# Altium schematic symbol library Transistor BJT.SchLib: 71 symbols
Pins are listed as number, name and electrical type; pins without a type are passive.

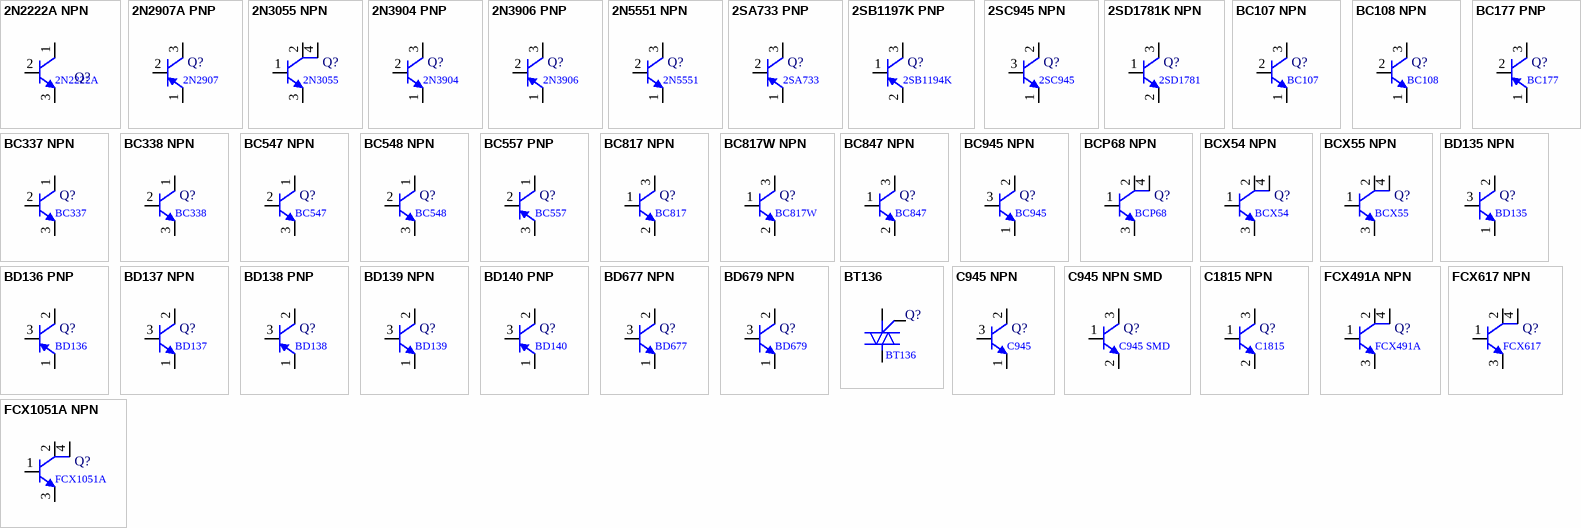
[diagram p0: symbols 2N2222A NPN to FCX1051A NPN]

## 2N2222A NPN
designator Q?  value 2N2222A
DatasheetVersion: 2022
pins: 1 C, 2 B, 3 E

## 2N2907A PNP
designator Q?  value 2N2907
DatasheetVersion: 2022
pins: 1 E, 2 B, 3 C

## 2N3055 NPN
designator Q?  value 2N3055
DatasheetVersion: 2022
pins: 1 B, 2 C, 3 E, 4 C

## 2N3904 PNP
designator Q?  value 2N3904
DatasheetVersion: 2022
pins: 1 E, 2 B, 3 C

## 2N3906 PNP
designator Q?  value 2N3906
DatasheetVersion: 2022
pins: 1 E, 2 B, 3 C

## 2N5551 NPN
designator Q?  value 2N5551
DatasheetVersion: 2022
pins: 1 E, 2 B, 3 C

## 2SA733 PNP
designator Q?  value 2SA733
DatasheetVersion: 2022
pins: 1 E, 2 B, 3 C

## 2SB1197K PNP
designator Q?  value 2SB1194K
DatasheetVersion: 2022
pins: 1 B, 2 E, 3 C

## 2SC945 NPN
designator Q?  value 2SC945
DatasheetVersion: 2022
pins: 1 E, 2 C, 3 B

## 2SD1781K NPN
designator Q?  value 2SD1781
DatasheetVersion: 2022
pins: 1 B, 2 E, 3 C

## BC107 NPN
designator Q?  value BC107
DatasheetVersion: 2022
pins: 1 E, 2 B, 3 C

## BC108 NPN
designator Q?  value BC108
DatasheetVersion: 2022
pins: 1 E, 2 B, 3 C

## BC177 PNP
designator Q?  value BC177
DatasheetVersion: 2022
pins: 1 E, 2 B, 3 C

## BC337 NPN
designator Q?  value BC337
DatasheetVersion: 2022
pins: 1 C, 2 B, 3 E

## BC338 NPN
designator Q?  value BC338
DatasheetVersion: 2022
pins: 1 C, 2 B, 3 E

## BC547 NPN
designator Q?  value BC547
DatasheetVersion: 2022
pins: 1 C, 2 B, 3 E

## BC548 NPN
designator Q?  value BC548
DatasheetVersion: 2022
pins: 1 C, 2 B, 3 E

## BC557 PNP
designator Q?  value BC557
DatasheetVersion: 2022
pins: 1 C, 2 B, 3 E

## BC817 NPN
designator Q?  value BC817
DatasheetVersion: 2022
pins: 1 B, 2 E, 3 C

## BC817W NPN
designator Q?  value BC817W
DatasheetVersion: 2022
pins: 1 B, 2 E, 3 C

## BC847 NPN
designator Q?  value BC847
DatasheetVersion: 2022
pins: 1 B, 2 E, 3 C

## BC945 NPN
designator Q?  value BC945
DatasheetVersion: 2022
pins: 1 E, 2 C, 3 B

## BCP68 NPN
designator Q?  value BCP68
DatasheetVersion: 2022
pins: 1 B, 2 C, 3 E, 4 C2

## BCX54 NPN
designator Q?  value BCX54
DatasheetVersion: 2022
pins: 1 B, 2 C, 3 E, 4 C2

## BCX55 NPN
designator Q?  value BCX55
DatasheetVersion: 2022
pins: 1 B, 2 C, 3 E, 4 C

## BD135 NPN
designator Q?  value BD135
DatasheetVersion: 2022
pins: 1 E, 2 C, 3 B

## BD136 PNP
designator Q?  value BD136
DatasheetVersion: 2022
pins: 1 E, 2 C, 3 B

## BD137 NPN
designator Q?  value BD137
DatasheetVersion: 2022
pins: 1 E, 2 C, 3 B

## BD138 PNP
designator Q?  value BD138
DatasheetVersion: 2022
pins: 1 E, 2 C, 3 B

## BD139 NPN
designator Q?  value BD139
DatasheetVersion: 2022
pins: 1 E, 2 C, 3 B

## BD140 PNP
designator Q?  value BD140
DatasheetVersion: 2022
pins: 1 E, 2 C, 3 B

## BD677 NPN
designator Q?  value BD677
DatasheetVersion: 2022
pins: 1 E, 2 C, 3 B

## BD679 NPN
designator Q?  value BD679
DatasheetVersion: 2022
pins: 1 E, 2 C, 3 B

## BT136
designator Q?  value BT136
DatasheetVersion: 2022
pins: 1 A1, 2 A2, 3 G

## C945 NPN
designator Q?  value C945
DatasheetVersion: 2022
pins: 1 E, 2 C, 3 B

## C945 NPN SMD
designator Q?  value C945 SMD
DatasheetVersion: 2022
pins: 1 B, 2 E, 3 C

## C1815 NPN
designator Q?  value C1815
DatasheetVersion: 2022
pins: 1 B, 2 E, 3 C

## FCX491A NPN
designator Q?  value FCX491A
DatasheetVersion: 2022
pins: 1 B, 2 C, 3 E, 4 C2

## FCX617 NPN
designator Q?  value FCX617
DatasheetVersion: 2022
pins: 1 B, 2 C, 3 E, 4 C2

## FCX1051A NPN
designator Q?  value FCX1051A
DatasheetVersion: 2022
pins: 1 B, 2 C, 3 E, 4 C2

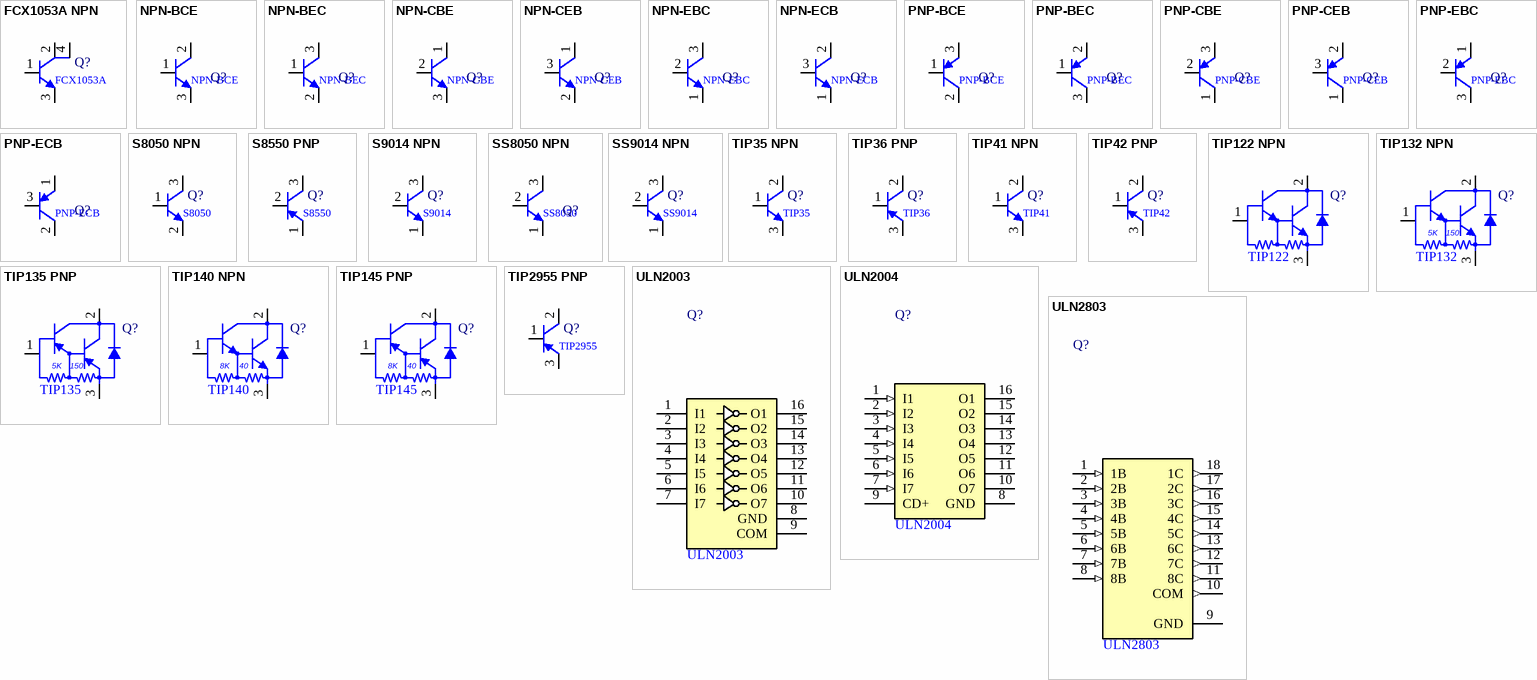
[diagram p1: symbols FCX1053A NPN to ULN2803]

## FCX1053A NPN
designator Q?  value FCX1053A
DatasheetVersion: 2022
pins: 1 B, 2 C, 3 E, 4 C2

## NPN-BCE
designator Q?  value NPN-BCE
DatasheetVersion: 2022
pins: 1 B, 2 C, 3 E

## NPN-BEC
designator Q?  value NPN-BEC
DatasheetVersion: 2022
pins: 1 B, 2 E, 3 C

## NPN-CBE
designator Q?  value NPN-CBE
DatasheetVersion: 2022
pins: 1 C, 2 B, 3 E

## NPN-CEB
designator Q?  value NPN-CEB
DatasheetVersion: 2022
pins: 1 C, 2 E, 3 B

## NPN-EBC
designator Q?  value NPN-EBC
DatasheetVersion: 2022
pins: 1 E, 2 B, 3 C

## NPN-ECB
designator Q?  value NPN-ECB
DatasheetVersion: 2022
pins: 1 E, 2 C, 3 B

## PNP-BCE
designator Q?  value PNP-BCE
DatasheetVersion: 2022
pins: 1 B, 2 C, 3 E

## PNP-BEC
designator Q?  value PNP-BEC
DatasheetVersion: 2022
pins: 1 B, 2 E, 3 C

## PNP-CBE
designator Q?  value PNP-CBE
DatasheetVersion: 2022
pins: 1 C, 2 B, 3 E

## PNP-CEB
designator Q?  value PNP-CEB
DatasheetVersion: 2022
pins: 1 C, 2 E, 3 B

## PNP-EBC
designator Q?  value PNP-EBC
DatasheetVersion: 2022
pins: 1 E, 2 B, 3 C

## PNP-ECB
designator Q?  value PNP-ECB
DatasheetVersion: 2022
pins: 1 E, 2 C, 3 B

## S8050 NPN
designator Q?  value S8050
DatasheetVersion: 2022
pins: 1 B, 2 E, 3 C

## S8550 PNP
designator Q?  value S8550
DatasheetVersion: 2022
pins: 1 E, 2 B, 3 C

## S9014 NPN
designator Q?  value S9014
DatasheetVersion: 2022
pins: 1 E, 2 B, 3 C

## SS8050 NPN
designator Q?  value SS8050
DatasheetVersion: 2022
pins: 1 E, 2 B, 3 C

## SS9014 NPN
designator Q?  value SS9014
DatasheetVersion: 2022
pins: 1 E, 2 B, 3 C

## TIP35 NPN
designator Q?  value TIP35
DatasheetVersion: 2022
pins: 1 B, 2 C, 3 E

## TIP36 PNP
designator Q?  value TIP36
DatasheetVersion: 2022
pins: 1 B, 2 C, 3 E

## TIP41 NPN
designator Q?  value TIP41
DatasheetVersion: 2022
pins: 1 B, 2 C, 3 E

## TIP42 PNP
designator Q?  value TIP42
DatasheetVersion: 2022
pins: 1 B, 2 C, 3 E

## TIP122 NPN
designator Q?  value TIP122
DatasheetVersion: 2022
pins: 1 B, 2 C, 3 E

## TIP132 NPN
designator Q?  value TIP132
DatasheetVersion: 2022
pins: 1 B, 2 C, 3 E
text: 5K; 150

## TIP135 PNP
designator Q?  value TIP135
DatasheetVersion: 2022
pins: 1 B, 2 C, 3 E
text: 5K; 150

## TIP140 NPN
designator Q?  value TIP140
DatasheetVersion: 2022
pins: 1 B, 2 C, 3 E
text: 8K; 40

## TIP145 PNP
designator Q?  value TIP145
DatasheetVersion: 2022
pins: 1 B, 2 C, 3 E
text: 8K; 40

## TIP2955 PNP
designator Q?  value TIP2955
DatasheetVersion: 2022
pins: 1 B, 2 C, 3 E

## ULN2003
designator Q?  value ULN2003
DatasheetVersion: 2022
pins: 1 I1, 2 I2, 3 I3, 4 I4, 5 I5, 6 I6, 7 I7, 8 GND, 9 COM, 10 O7, 11 O6, 12 O5, 13 O4, 14 O3, 15 O2, 16 O1

## ULN2004
designator Q?  value ULN2004
DatasheetVersion: 2022
pins: 1 I1 (in), 2 I2 (in), 3 I3 (in), 4 I4 (in), 5 I5 (in), 6 I6 (in), 7 I7 (in), 8 GND (power), 9 CD+, 10 O7 (oc), 11 O6 (oc), 12 O5 (oc), 13 O4 (oc), 14 O3 (oc), 15 O2 (oc), 16 O1 (oc)

## ULN2803
designator Q?  value ULN2803
DatasheetVersion: 2022
pins: 1 1B (in), 2 2B (in), 3 3B (in), 4 4B (in), 5 5B (in), 6 6B (in), 7 7B (in), 8 8B (in), 9 GND (power), 10 COM (out), 11 8C (out), 12 7C (out), 13 6C (out), 14 5C (out), 15 4C (out), 16 3C (out), 17 2C (out), 18 1C (out)